# Altium schematic symbol library ZZCDevice.SchLib: 3 symbols
Pins are listed as number, name and electrical type; pins without a type are passive.

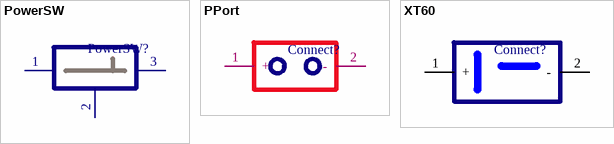
[diagram p0: symbols PowerSW to XT60]

## PowerSW
designator PowerSW?, comment Power  (value not drawn)
footprint PowerSW
pins: 1, 2, 3

## PPort
designator Connect?, comment Pin2  (value not drawn)
footprint 2port_2.54*2mm (none)
pins: 1 + "power", 2 -

## XT60
designator Connect?  (value not drawn)
footprint XT60
pins: 1 +, 2 -